# Altium footprint library footprint.PcbLib: 34 footprints (part 1 of 3)
Each footprint in its own frame and in the unit in brackets; x right, y up, seen from the top. Pads: shape width x height; smd on the part's side, far side on the other; paste and mask are expansions set on the pad; w line width, h text height; cw(c..) or ccw(c..) is an arc to the next point about the centre after c.
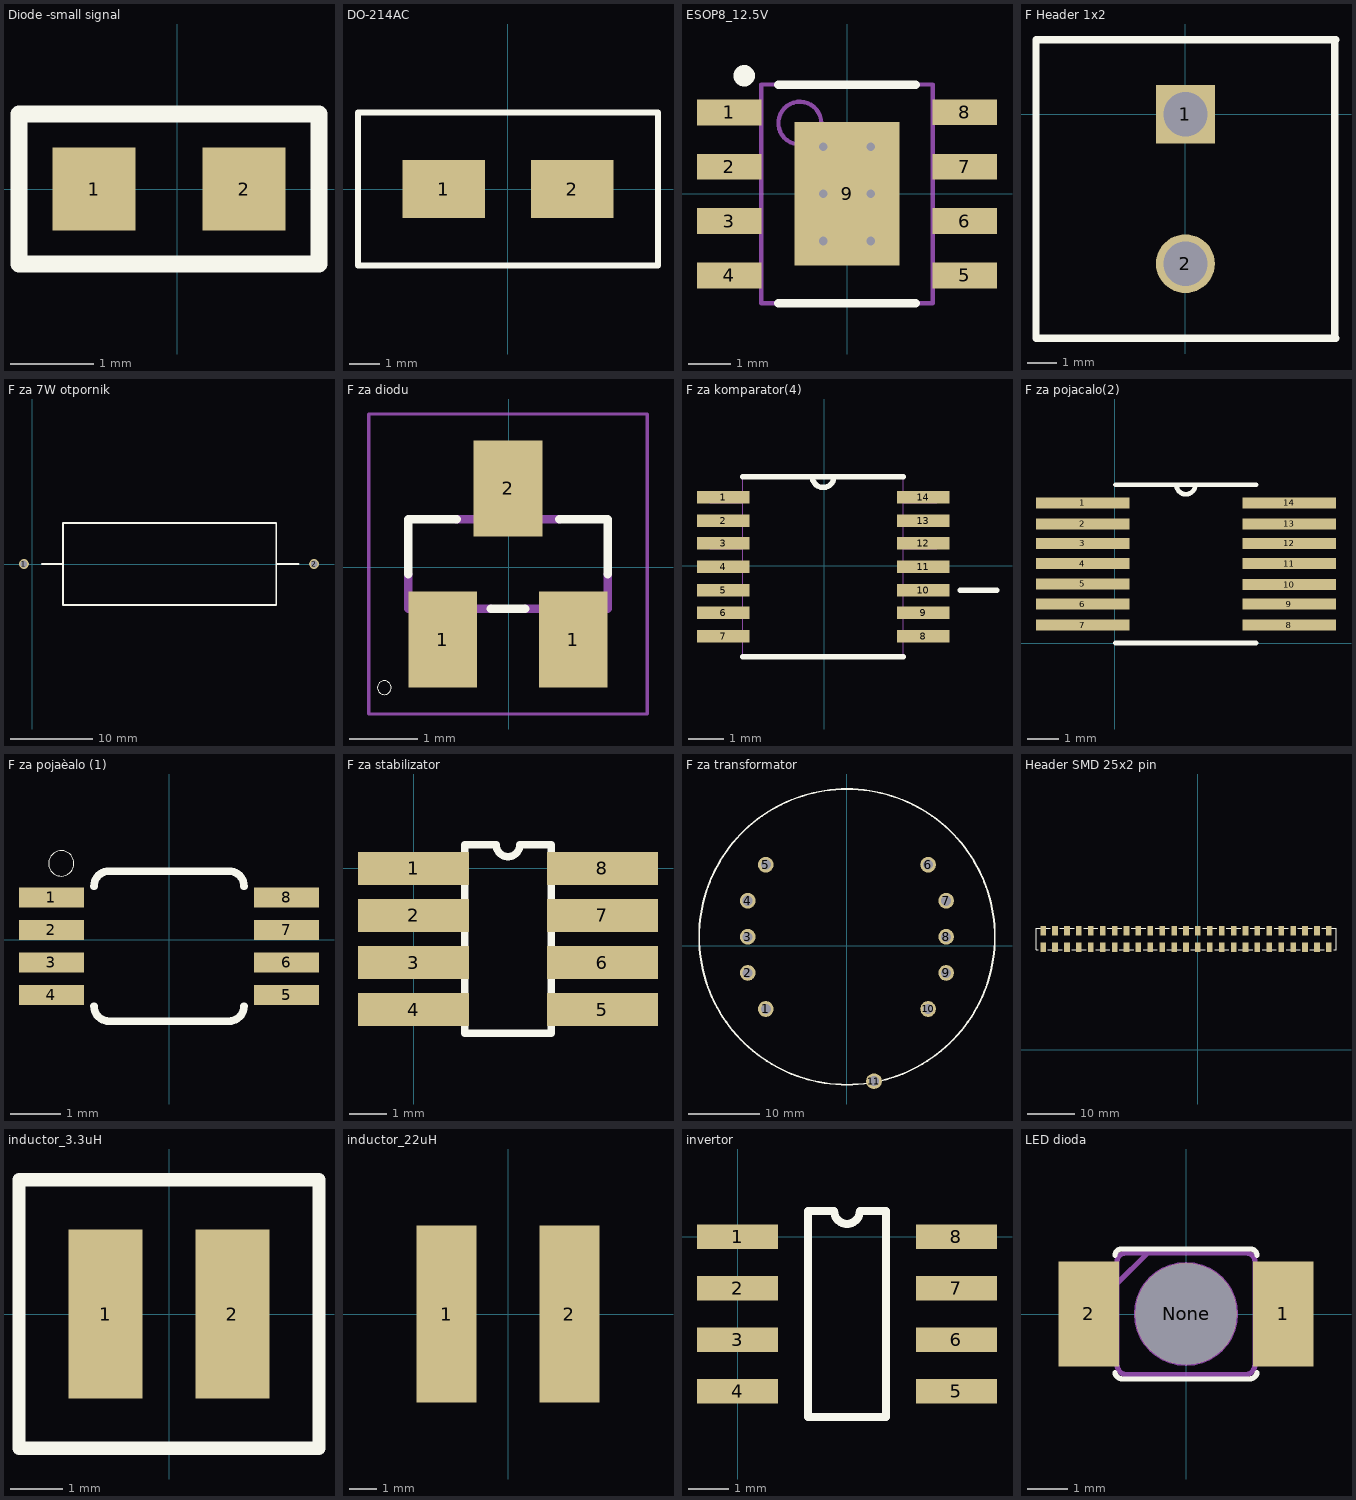
[diagram p0: the footprints below, top view; thin cyan lines are the x and y axes]

## Diode -small signal [mm]
pads (2):
  rect 1x1 smd: 1(-1,0) 2(0.8,0)
Top Overlay:
  lines w0.2: -1.9,-0.9 1.7,-0.9 1.7,0.9 -1.9,0.9 -1.9,0 -1.9,-0.9

## DO-214AC [mm]
pads (2):
  rect 2.7x1.9 smd: 1(-2.1,0) 2(2.1,0)
Top Overlay:
  lines w0.2: -4.9,-2.5 4.9,-2.5 4.9,2.5 -4.9,2.5 -4.9,0 -4.9,-2.5

## ESOP8_12.5V [mm] "TSOP, 8-Leads, Body 4,90x3,90mm, Pitch 1,27mm, Thermal Pad 3,35x2,45mm, IPC Medium Density"
height 1.5
pads (9):
  rect 1.5x0.6 smd: 1(-2.75,1.9) 2(-2.75,0.635) 3(-2.75,-0.635) 4(-2.75,-1.905) 5(2.75,-1.905) 6(2.75,-0.635) 7(2.75,0.635) 8(2.75,1.905)
  rect 2.45x3.35 smd: 9(0,0)
via 0.55,-1.1 diameter 0.5 hole 0.2
via -0.55,-1.1 diameter 0.5 hole 0.2
via 0.55,0 diameter 0.5 hole 0.2
via -0.55,0 diameter 0.5 hole 0.2
via 0.55,1.1 diameter 0.5 hole 0.2
via -0.55,1.1 diameter 0.5 hole 0.2
Top Overlay:
  circle w0.25: c-2.4,2.755 r0.125
  lines w0.2: -1.6,-2.55 1.6,-2.55 ; -1.6,2.55 1.6,2.55
Mechanical 13:
  circle w0.1: c-1.1,1.65 r0.5
  lines w0.1: -2,-2.55 2,-2.55 2,2.55 -2,2.55 -2,-2.55
Mechanical 15:
  lines w0.1: -0.5,0 0.5,0 ; 0,-0.5 0,0.5
3D body: height 1.5, standoff 0.15, extent -2,-2.55 2,2.55

## F Header 1x2 [mm]
pads (2):
  rect 2x2 hole 1.5: 1(0,0)
  round 2 hole 1.5: 2(0,-5.08)
Top Overlay:
  lines w0.254: 5.08,-7.62 5.08,2.54 ; 5.12,-7.62 -5.08,-7.62 -5.08,2.54 5.12,2.54

## F za 7W otpornik [mm]
pads (2):
  round 1.2 hole 0.8: 1(-1,0) 2(34.4,0)
Top Overlay:
  lines w0.2: 1.2,0 3.775,0 ; 29.925,0 32.5,0 ; 3.775,0 3.775,-5 29.8,-5 29.8,5 3.775,5 3.775,0

## F za diodu [mm]
pads (3):
  rect 1x1.4 smd paste-25.4 mask-25.4: 1(-0.959,-1.056) 1(0.941,-1.056) 2(-0.009,1.144)
Top Overlay:
  circle w0: c-1.809,-1.756 r0.1
  lines w0.127: -1.459,-0.106 -1.459,0.694 -0.759,0.694 ; -0.259,-0.606 0.241,-0.606 ; 0.741,0.694 1.441,0.694 1.441,-0.106
Top Paste:
  region: -1.459,-1.756 -0.459,-1.756 -0.459,-0.356 -1.459,-0.356
  region: 0.441,-1.756 1.441,-1.756 1.441,-0.356 0.441,-0.356
  region: -0.509,0.444 0.491,0.444 0.491,1.844 -0.509,1.844
Top Solder:
  region: -1.459,-1.756 -0.459,-1.756 -0.459,-0.356 -1.459,-0.356
  region: 0.441,-1.756 1.441,-1.756 1.441,-0.356 0.441,-0.356
  region: -0.509,0.444 0.491,0.444 0.491,1.844 -0.509,1.844
Mechanical 1:
  lines w0.051: -2.032,-2.139 -2.032,2.227 2.014,2.227 2.014,-2.139 -2.032,-2.139
  lines w0.127: -1.459,-0.106 -1.459,-0.606 -0.259,-0.606 ; -0.759,0.694 0.741,0.694 ; 0.241,-0.606 1.441,-0.606 1.441,-0.106

## F za komparator(4) [mil]
pads (14):
  rect 58x14 smd paste-1000 mask-1000: 1(-112,76) 2(-112,50) 3(-112,25) 4(-112,-1) 5(-112,-27) 6(-112,-52) 7(-112,-78) 8(110,-78) 9(110,-52) 10(110,-27) 11(110,-1) 12(110,25) 13(110,50) 14(110,76)
Top Overlay:
  lines w6: -90,-101 88,-101 ; -90,99 -13,99 ; 88,99 11,99 ; 151,-27 192,-27 ; -13,99 ccw(c-1,99) 11,99 ; -13,99 11,99
Top Paste:
  region: -141,69 -83,69 -83,83 -141,83
  region: -141,43 -83,43 -83,57 -141,57
  region: -141,18 -83,18 -83,32 -141,32
  region: -141,-8 -83,-8 -83,6 -141,6
  region: -141,-34 -83,-34 -83,-20 -141,-20
  region: -141,-59 -83,-59 -83,-45 -141,-45
  region: -141,-85 -83,-85 -83,-71 -141,-71
  region: 81,-85 139,-85 139,-71 81,-71
  region: 81,-59 139,-59 139,-45 81,-45
  region: 81,-34 139,-34 139,-20 81,-20
  region: 81,-8 139,-8 139,6 81,6
  region: 81,18 139,18 139,32 81,32
  region: 81,43 139,43 139,57 81,57
  region: 81,69 139,69 139,83 81,83
Top Solder:
  region: -141,69 -83,69 -83,83 -141,83
  region: -141,43 -83,43 -83,57 -141,57
  region: -141,18 -83,18 -83,32 -141,32
  region: -141,-8 -83,-8 -83,6 -141,6
  region: -141,-34 -83,-34 -83,-20 -141,-20
  region: -141,-59 -83,-59 -83,-45 -141,-45
  region: -141,-85 -83,-85 -83,-71 -141,-71
  region: 81,-85 139,-85 139,-71 81,-71
  region: 81,-59 139,-59 139,-45 81,-45
  region: 81,-34 139,-34 139,-20 81,-20
  region: 81,-8 139,-8 139,6 81,6
  region: 81,18 139,18 139,32 81,32
  region: 81,43 139,43 139,57 81,57
  region: 81,69 139,69 139,83 81,83
Mechanical 1:
  lines w0: -13,99 ccw(c-1,99) 11,99 ; -13,99 11,99 ; -13,99 -90,99 -90,-101 88,-101 88,99 11,99 ; -127,-84 -127,-72 -90,-72 -90,-84 -127,-84 ; -127,-58 -127,-46 -90,-46 -90,-58 -127,-58 ; -127,-32 -127,-21 -90,-21 -90,-32 -127,-32 ; -127,-7 -127,5 -90,5 -90,-7 -127,-7 ; -127,19 -127,30 -90,30 -90,19 -127,19 ; -127,44 -127,56 -90,56 -90,44 -127,44 ; -127,70 -127,82 -90,82 -90,70 -127,70 ; 88,-84 88,-72 125,-72 125,-84 88,-84 ; 88,-58 88,-46 125,-46 125,-58 88,-58 ; 88,-32 88,-21 125,-21 125,-32 88,-32 ; 88,-7 88,5 125,5 125,-7 88,-7 ; 88,19 88,30 125,30 125,19 88,19 ; 88,44 88,56 125,56 125,44 88,44 ; 88,70 88,82 125,82 125,70 88,70

## F za pojacalo(2) [mm]
pads (14):
  rect 3x0.356 smd paste-25.4 mask-25.4: 1(-1.025,4.5) 2(-1.025,3.825) 3(-1.025,3.2) 4(-1.025,2.55) 5(-1.025,1.9) 6(-1.025,1.25) 7(-1.025,0.575) 8(5.6,0.575) 9(5.6,1.25) 10(5.6,1.875) 11(5.6,2.55) 12(5.6,3.2) 13(5.6,3.825) 14(5.605,4.496)
Top Overlay:
  lines w0.152: 0.025,0 4.547,0 ; 0.025,5.08 1.981,5.08 ; 4.547,5.08 2.591,5.08 ; 1.981,5.08 ccw(c2.286,5.08) 2.591,5.08 ; 1.981,5.08 2.591,5.08
Top Paste:
  region: -1.27,4.318 0.203,4.318 0.203,4.674 -1.27,4.674
  region: -1.27,3.658 0.203,3.658 0.203,4.013 -1.27,4.013
  region: -1.27,3.023 0.203,3.023 0.203,3.378 -1.27,3.378
  region: -1.27,2.362 0.203,2.362 0.203,2.718 -1.27,2.718
  region: -1.27,1.702 0.203,1.702 0.203,2.057 -1.27,2.057
  region: -1.27,1.067 0.203,1.067 0.203,1.422 -1.27,1.422
  region: -1.27,0.406 0.203,0.406 0.203,0.762 -1.27,0.762
  region: 4.369,0.406 5.842,0.406 5.842,0.762 4.369,0.762
  region: 4.369,1.067 5.842,1.067 5.842,1.422 4.369,1.422
  region: 4.369,1.702 5.842,1.702 5.842,2.057 4.369,2.057
  region: 4.369,2.362 5.842,2.362 5.842,2.718 4.369,2.718
  region: 4.369,3.023 5.842,3.023 5.842,3.378 4.369,3.378
  region: 4.369,3.658 5.842,3.658 5.842,4.013 4.369,4.013
  region: 4.369,4.318 5.842,4.318 5.842,4.674 4.369,4.674
Top Solder:
  region: -1.27,4.318 0.203,4.318 0.203,4.674 -1.27,4.674
  region: -1.27,3.658 0.203,3.658 0.203,4.013 -1.27,4.013
  region: -1.27,3.023 0.203,3.023 0.203,3.378 -1.27,3.378
  region: -1.27,2.362 0.203,2.362 0.203,2.718 -1.27,2.718
  region: -1.27,1.702 0.203,1.702 0.203,2.057 -1.27,2.057
  region: -1.27,1.067 0.203,1.067 0.203,1.422 -1.27,1.422
  region: -1.27,0.406 0.203,0.406 0.203,0.762 -1.27,0.762
  region: 4.369,0.406 5.842,0.406 5.842,0.762 4.369,0.762
  region: 4.369,1.067 5.842,1.067 5.842,1.422 4.369,1.422
  region: 4.369,1.702 5.842,1.702 5.842,2.057 4.369,2.057
  region: 4.369,2.362 5.842,2.362 5.842,2.718 4.369,2.718
  region: 4.369,3.023 5.842,3.023 5.842,3.378 4.369,3.378
  region: 4.369,3.658 5.842,3.658 5.842,4.013 4.369,4.013
  region: 4.369,4.318 5.842,4.318 5.842,4.674 4.369,4.674

## F za pojaèalo (1) [mm]
pads (8):
  rect 1.3x0.4 smd paste-25.4 mask-25.4: 1(-2.35,0.85) 2(-2.35,0.2) 3(-2.35,-0.45) 4(-2.35,-1.1) 5(2.35,-1.1) 6(2.35,-0.45) 7(2.35,0.2) 8(2.35,0.85)
Top Overlay:
  circle w0: c-2.155,1.528 r0.254
  lines w0.152: -1.5,-1.327 ccw(c-1.2,-1.327) -1.2,-1.627 1.2,-1.627 ccw(c1.2,-1.327) 1.5,-1.327 ; -1.5,1.073 cw(c-1.2,1.073) -1.2,1.373 1.2,1.373 cw(c1.2,1.073) 1.5,1.073
Top Paste:
  region: -2.9,1.048 -2.9,0.648 -1.8,0.648 -1.8,1.048
  region: -2.9,0.398 -2.9,-0.002 -1.8,-0.002 -1.8,0.398
  region: -2.9,-0.252 -2.9,-0.652 -1.8,-0.652 -1.8,-0.252
  region: -2.9,-0.902 -2.9,-1.302 -1.8,-1.302 -1.8,-0.902
  region: 1.8,-0.902 1.8,-1.302 2.9,-1.302 2.9,-0.902
  region: 1.8,-0.252 1.8,-0.652 2.9,-0.652 2.9,-0.252
  region: 1.8,0.398 1.8,-0.002 2.9,-0.002 2.9,0.398
  region: 1.8,1.048 1.8,0.648 2.9,0.648 2.9,1.048
Top Solder:
  region: -2.9,1.048 -2.9,0.648 -1.8,0.648 -1.8,1.048
  region: -2.9,0.398 -2.9,-0.002 -1.8,-0.002 -1.8,0.398
  region: -2.9,-0.252 -2.9,-0.652 -1.8,-0.652 -1.8,-0.252
  region: -2.9,-0.902 -2.9,-1.302 -1.8,-1.302 -1.8,-0.902
  region: 1.8,-0.902 1.8,-1.302 2.9,-1.302 2.9,-0.902
  region: 1.8,-0.252 1.8,-0.652 2.9,-0.652 2.9,-0.252
  region: 1.8,0.398 1.8,-0.002 2.9,-0.002 2.9,0.398
  region: 1.8,1.048 1.8,0.648 2.9,0.648 2.9,1.048

## F za stabilizator [mm]
pads (8):
  rect 3x0.889 smd: 1(0,0) 2(0,-1.27) 3(0,-2.54) 4(0,-3.81) 5(5.097,-3.81) 6(5.097,-2.54) 7(5.097,-1.27) 8(5.097,0)
Top Overlay:
  lines w0.2: 1.385,-4.445 3.712,-4.445 3.712,0.635 2.866,0.635 cw(c2.548,0.635) 2.231,0.635 1.385,0.635 1.385,-4.445

## F za transformator [mm]
pads (11):
  round 2.2 hole 1.4: 1(-11.34,-8.82) 2(-13.86,-3.78) 3(-13.86,1.26) 4(-13.86,6.3) 5(-11.34,11.34) 6(11.34,11.34) 7(13.86,6.3) 8(13.86,1.26) 9(13.86,-3.78) 10(11.34,-8.82) 11(3.78,-18.9)
Top Overlay:
  circle w0.254: c0.01,1.26 r20.654

## Header SMD 25x2 pin [mm]
pads (50):
  rect 1.2x2.1 smd: 1(27.94,25.4) 2(27.94,21.9) 3(25.4,25.4) 4(25.4,21.9) 5(22.86,25.4) 6(22.86,21.9) 7(20.32,25.4) 8(20.32,21.9) 9(17.78,25.4) 10(17.78,21.9) 11(15.24,25.4) 12(15.24,21.9) 13(12.7,25.4) 14(12.7,21.9) 15(10.16,25.4) 16(10.16,21.9) 17(7.62,25.4) 18(7.62,21.9) 19(5.08,25.4) 20(5.08,21.9) 21(2.54,25.4) 22(2.54,21.9) 23(0,25.4) 24(0,21.9) 25(-2.54,25.4) 26(-2.54,21.9) 27(-5.08,25.4) 28(-5.08,21.9) 29(-7.62,25.4) 30(-7.62,21.9) 31(-10.16,25.4) 32(-10.16,21.9) 33(-12.7,25.4) 34(-12.7,21.9) 35(-15.24,25.4) 36(-15.24,21.9) 37(-17.78,25.4) 38(-17.78,21.9) 39(-20.32,25.4) 40(-20.32,21.9) 41(-22.86,25.4) 42(-22.86,21.9) 43(-25.4,25.4) 44(-25.4,21.9) 45(-27.94,25.4) 46(-27.94,21.9) 47(-30.48,25.4) 48(-30.48,21.9) 49(-33.02,25.4) 50(-33.02,21.9)
Top Overlay:
  lines w0.254: -34.036,21.336 -34.544,21.336 -34.544,25.908 -31.496,25.908 ; -32.004,21.336 -28.956,21.336 ; -29.464,25.908 -26.416,25.908 ; -26.924,21.336 -23.876,21.336 ; -24.384,25.908 -21.336,25.908 ; -21.844,21.336 -18.796,21.336 ; -21.844,25.908 -21.59,25.908 -21.361,25.908 ; -19.304,25.908 -16.256,25.908 ; -16.764,21.336 -13.716,21.336 ; -14.224,25.908 -11.176,25.908 ; -11.684,21.336 -8.636,21.336 ; -9.144,25.908 -6.096,25.908 ; -6.604,21.336 -3.556,21.336 ; -4.064,25.908 -1.016,25.908 ; -1.524,21.336 1.524,21.336 ; 1.016,25.908 4.064,25.908 ; 3.556,21.336 6.604,21.336 ; 6.096,25.908 9.144,25.908 ; 8.636,21.336 11.684,21.336 ; 11.176,25.908 14.224,25.908 ; 13.716,21.336 16.764,21.336 ; 16.256,25.908 19.304,25.908 ; 18.796,21.336 21.844,21.336 ; 21.336,25.908 24.384,25.908 ; 23.876,21.336 26.924,21.336 ; 26.416,25.908 29.464,25.908 29.464,21.336 28.956,21.336

## inductor_3.3uH [mm]
pads (2):
  rect 1.4x3.2 smd: 1(-1.2,0) 2(1.2,0)
Top Overlay:
  lines w0.254: -2.84,-2.54 2.84,-2.54 2.84,2.54 -2.84,2.54 -2.84,0 -2.84,-2.54

## inductor_22uH [mm]
pads (2):
  rect 2.2x6.5 smd: 1(-2.25,0) 2(2.25,0)

## invertor [mm]
pads (8):
  rect 2x0.6 smd: 1(0,0) 2(0,-1.27) 3(0,-2.54) 4(0,-3.81) 5(5.4,-3.81) 6(5.4,-2.54) 7(5.4,-1.27) 8(5.4,0)
Top Overlay:
  lines w0.2: 1.735,-4.445 3.665,-4.445 3.665,0.635 3.017,0.635 cw(c2.7,0.635) 2.382,0.635 1.735,0.635 1.735,-4.445

## LED dioda [mm]
pads (3):
  rect 1.5x2.6 smd: 1(2.397,0.001) 2(-2.403,0.001)
  round 2.5 hole 2.5 unplated: None(-0.003,0.001)
Top Overlay:
  lines w0.127: -1.753,-1.449 ccw(c-1.578,-1.424) -1.553,-1.599 1.547,-1.599 ccw(c1.572,-1.424) 1.747,-1.449 ; -1.753,1.451 cw(c-1.603,1.451) -1.603,1.601 1.597,1.601 cw(c1.597,1.451) 1.747,1.451
Mechanical 1:
  circle w0.127: c-0.003,0.001 r1.221
  lines w0.127: -1.703,-1.149 -1.703,-1.249 ccw(c-1.453,-1.249) -1.453,-1.499 1.447,-1.499 ccw(c1.447,-1.249) 1.697,-1.249 1.697,-1.199 ; -1.703,-1.149 -2.653,-1.149 -2.653,1.151 -1.703,1.151 ; -1.703,-1.149 -1.703,-0.649 ; -1.703,-0.649 -1.703,0.651 ; -1.703,-0.649 -1.753,-0.649 cw(c-1.753,-0.549) -1.853,-0.549 -1.853,0.501 cw(c-1.703,0.501) -1.703,0.651 ; -1.703,0.651 -1.703,0.751 ; -1.703,0.751 -1.703,1.151 ; -1.703,0.751 -0.953,1.501 ; -1.703,1.151 -1.703,1.301 cw(c-1.503,1.301) -1.503,1.501 -0.953,1.501 ; -0.953,1.501 1.497,1.501 cw(c1.497,1.301) 1.697,1.301 1.697,1.201 ; 1.697,-1.199 1.697,-1.149 2.697,-1.149 2.697,1.151 1.697,1.151 1.697,1.201 ; 1.697,-1.199 1.697,-0.649 ; 1.697,-0.649 ccw(c1.697,-0.499) 1.847,-0.499 1.847,0.551 ccw(c1.747,0.551) 1.747,0.651 1.697,0.651 ; 1.697,-0.649 1.697,0.651 ; 1.697,0.651 1.697,1.201 ; -0.803,0.001 ccw(c-0.003,0.001) -0.003,-0.799 ccw(c-0.003,0.001) 0.797,0.001 ccw(c-0.003,0.001) -0.003,0.801 ccw(c-0.003,0.001) -0.803,0.001